# Altium footprint library Inductor_SMD.PcbLib: 259 footprints (part 8 of 17)
Each footprint in its own frame and in the unit in brackets; x right, y up, seen from the top. Pads: shape width x height; smd on the part's side, far side on the other; paste and mask are expansions set on the pad; w line width, h text height; cw(c..) or ccw(c..) is an arc to the next point about the centre after c.
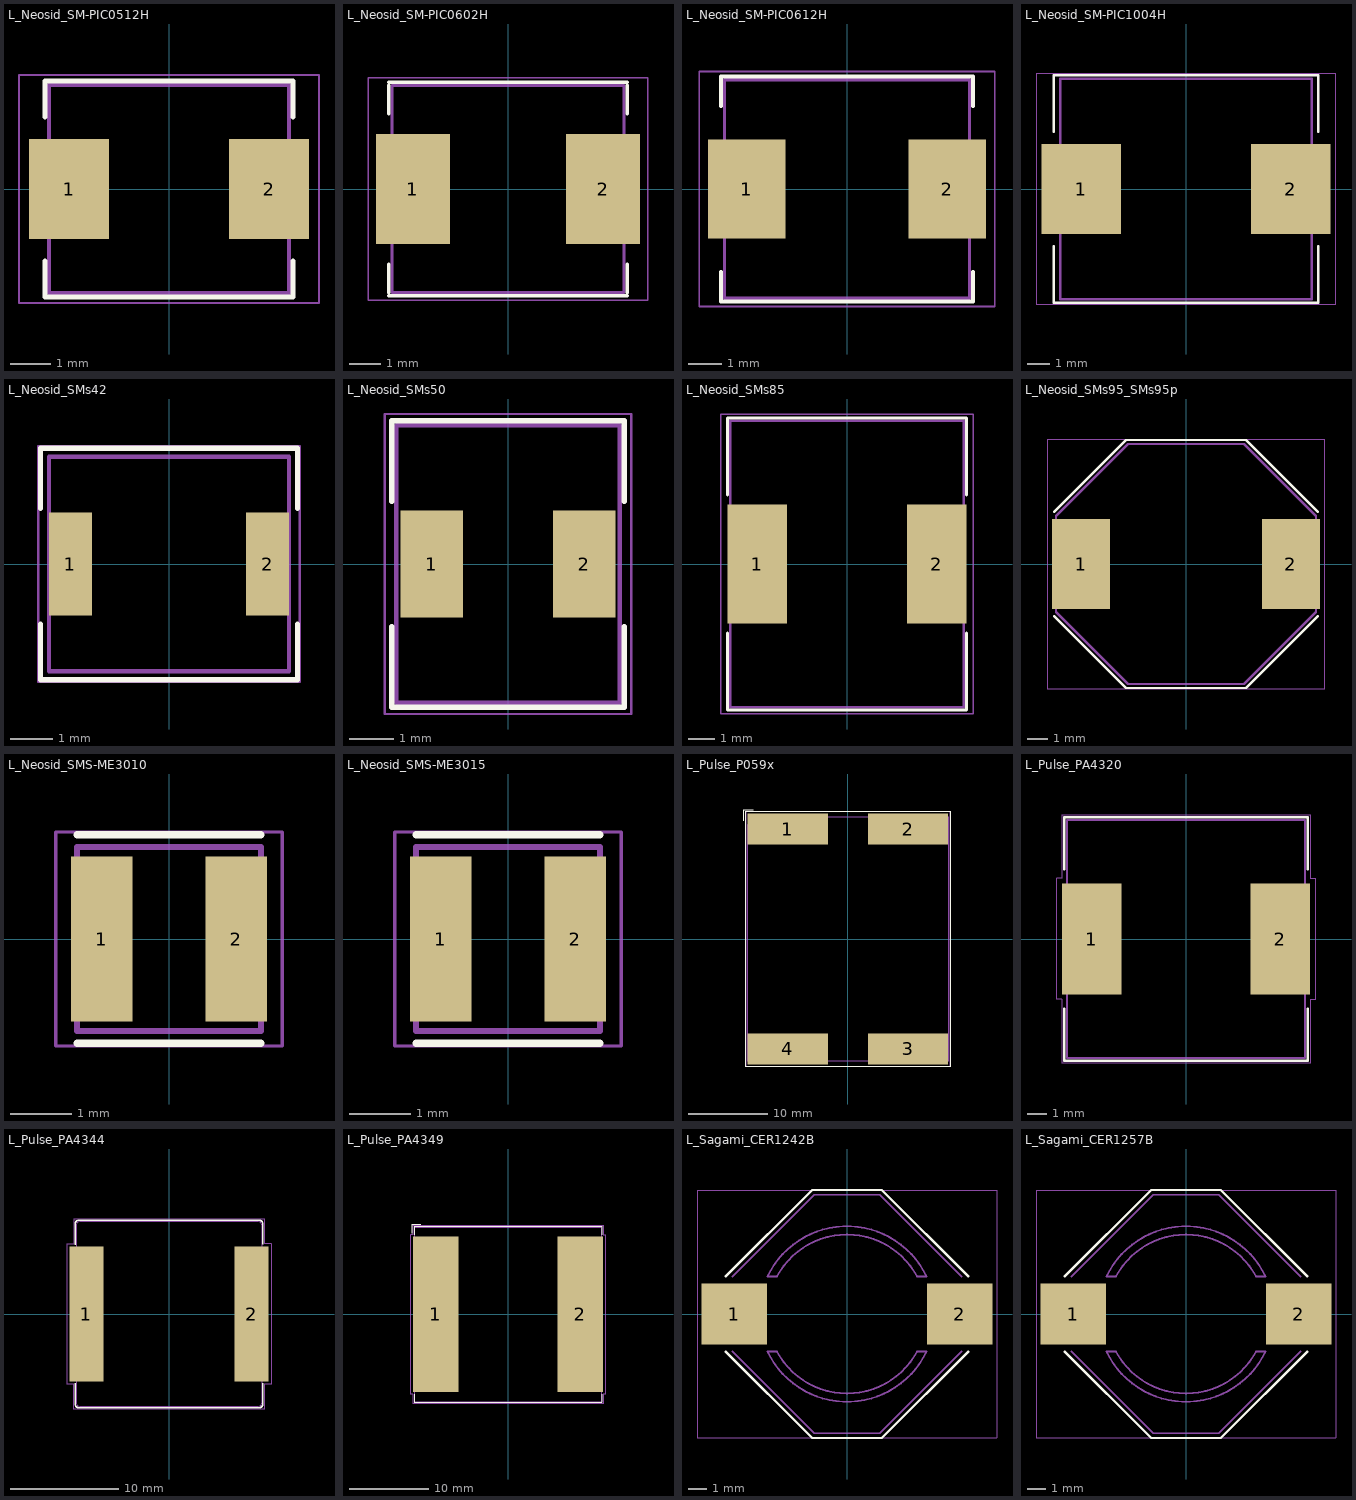
[diagram p7: the footprints below, top view; thin cyan lines are the x and y axes]

## L_Neosid_SM-PIC0512H [mm]
pads (2):
  rect 2x2.5 smd: 1(-2.5,0) 2(2.5,0)
F.SilkS:
  lines w0.12: -3.1,-1.8 -3.1,-2.7 3.1,-2.7 3.1,-1.8 ; -3.1,1.8 -3.1,2.7 3.1,2.7 3.1,1.8
F.CrtYd:
  lines w0.05: -3.75,-2.85 3.75,-2.85 3.75,2.85 -3.75,2.85 -3.75,-2.85
F.Fab:
  lines w0.1: -3,-2.6 3,-2.6 3,2.6 -3,2.6 -3,-2.6
  text "'.Designator'" at -4.047,-0.84 h1

## L_Neosid_SM-PIC0602H [mm]
pads (2):
  rect 2.35x3.5 smd: 1(-3.03,0) 2(3.03,0)
F.SilkS:
  lines w0.12: -3.8,-3.4 3.8,-3.4 ; -3.8,-3.3 -3.8,-2.4 ; -3.8,2.4 -3.8,3.3 ; -3.8,3.4 3.8,3.4 ; 3.8,-3.3 3.8,-2.4 ; 3.8,2.4 3.8,3.3
F.CrtYd:
  lines w0.05: -4.46,-3.55 -4.46,3.55 4.46,3.55 4.46,-3.55 -4.46,-3.55
F.Fab:
  lines w0.1: -3.7,-3.3 -3.7,3.3 3.7,3.3 3.7,-3.3 -3.7,-3.3
  text "'.Designator'" at -4.047,-0.84 h1

## L_Neosid_SM-PIC0612H [mm]
pads (2):
  rect 2.35x3 smd: 1(-3.03,0) 2(3.03,0)
F.SilkS:
  lines w0.12: -3.8,-2.5 -3.8,-3.4 3.8,-3.4 3.8,-2.5 ; -3.8,2.5 -3.8,3.4 3.8,3.4 3.8,2.5
F.CrtYd:
  lines w0.05: -4.46,-3.55 -4.46,3.55 4.46,3.55 4.46,-3.55 -4.46,-3.55
F.Fab:
  lines w0.1: -3.7,-3.3 3.7,-3.3 3.7,3.3 -3.7,3.3 -3.7,-3.3
  text "'.Designator'" at -4.047,-0.84 h1

## L_Neosid_SM-PIC1004H [mm]
pads (2):
  rect 3.6x4.1 smd: 1(-4.75,0) 2(4.75,0)
F.SilkS:
  lines w0.12: -6,-2.6 -6,-5.15 6,-5.15 6,-2.6 ; -6,2.6 -6,5.15 6,5.15 6,2.6
F.CrtYd:
  lines w0.05: -6.8,-5.25 6.8,-5.25 6.8,5.25 -6.8,5.25 -6.8,-5.25
F.Fab:
  lines w0.1: -5.7,-5 5.7,-5 5.7,5 -5.7,5 -5.7,-5
  text "'.Designator'" at -4.047,-0.84 h1

## L_Neosid_SMs42 [mm]
pads (2):
  rect 1x2.4 smd: 1(-2.3,0) 2(2.3,0)
F.SilkS:
  lines w0.12: -3,-1.4 -3,-2.7 3,-2.7 3,-1.4 ; -3,1.3 -3,2.7 3,2.7 3,1.3
F.CrtYd:
  lines w0.05: -3.05,-2.75 3.05,-2.75 3.05,2.75 -3.05,2.75 -3.05,-2.75
F.Fab:
  lines w0.1: -2.8,-2.5 2.8,-2.5 2.8,2.5 -2.8,2.5 -2.8,-2.5
  text "'.Designator'" at -4.047,-0.84 h1

## L_Neosid_SMs50 [mm]
pads (2):
  rect 1.4x2.4 smd: 1(-1.7,0) 2(1.7,0)
F.SilkS:
  lines w0.12: -2.6,-1.4 -2.6,-3.2 2.6,-3.2 2.6,-1.4 ; -2.6,1.4 -2.6,3.2 2.6,3.2 2.6,1.4
F.CrtYd:
  lines w0.05: -2.75,-3.35 -2.75,3.35 2.75,3.35 2.75,-3.35 -2.75,-3.35
F.Fab:
  lines w0.1: -2.5,-3.1 2.5,-3.1 2.5,3.1 -2.5,3.1 -2.5,-3.1
  text "'.Designator'" at -4.047,-0.84 h1

## L_Neosid_SMs85 [mm]
pads (2):
  rect 2.25x4.5 smd: 1(-3.38,0) 2(3.38,0)
F.SilkS:
  lines w0.12: -4.5,-2.6 -4.5,-5.5 4.5,-5.5 4.5,-2.6 ; -4.5,2.6 -4.5,5.5 4.5,5.5 4.5,2.6
F.CrtYd:
  lines w0.05: -4.75,-5.65 -4.75,5.65 4.75,5.65 4.75,-5.65 -4.75,-5.65
F.Fab:
  lines w0.1: -4.4,-5.4 4.4,-5.4 4.4,5.4 -4.4,5.4 -4.4,-5.4
  text "'.Designator'" at -4.047,-0.84 h1

## L_Neosid_SMs95_SMs95p [mm]
pads (2):
  rect 2.9x4.5 smd: 1(-5.25,0) 2(5.25,0)
F.SilkS:
  lines w0.12: -6.6,-2.6 -3,-6.2 3,-6.2 6.6,-2.6 ; -6.6,2.6 -3,6.2 3,6.2 6.6,2.6
F.CrtYd:
  lines w0.05: -6.95,-6.25 -6.95,6.25 6.95,6.25 6.95,-6.25 -6.95,-6.25
F.Fab:
  lines w0.1: -6.5,-2.4 -2.9,-6 2.9,-6 6.5,-2.4 6.5,2.4 2.9,6 -2.9,6 -6.5,2.4 -6.5,-2.4
  text "'.Designator'" at -4.047,-0.84 h1

## L_Neosid_SMS-ME3010 [mm]
pads (2):
  rect 1x2.7 smd: 1(-1.1,0) 2(1.1,0)
F.SilkS:
  lines w0.12: -1.5,-1.7 1.5,-1.7 ; -1.5,1.7 1.5,1.7
F.CrtYd:
  lines w0.05: -1.85,-1.75 -1.85,1.75 1.85,1.75 1.85,-1.75 -1.85,-1.75
F.Fab:
  lines w0.1: -1.5,-1.5 -1.5,1.5 1.5,1.5 1.5,-1.5 -1.5,-1.5
  text "'.Designator'" at -2.833,-0.588 h0.7

## L_Neosid_SMS-ME3015 [mm]
pads (2):
  rect 1x2.7 smd: 1(-1.1,0) 2(1.1,0)
F.SilkS:
  lines w0.12: -1.5,-1.7 1.5,-1.7 ; -1.5,1.7 1.5,1.7
F.CrtYd:
  lines w0.05: -1.85,-1.75 1.85,-1.75 1.85,1.75 -1.85,1.75 -1.85,-1.75
F.Fab:
  lines w0.1: -1.5,-1.5 1.5,-1.5 1.5,1.5 -1.5,1.5 -1.5,-1.5
  text "'.Designator'" at -2.833,-0.588 h0.7

## L_Pulse_P059x [mm]
pads (4):
  rect 10.16x3.94 smd: 1(-7.62,13.93) 2(7.62,13.93) 3(7.62,-13.93) 4(-7.62,-13.93)
F.SilkS:
  lines w0.12: -13.2,15 -13.2,16.4 -12,16.4 ; -12.96,-16.16 -12.96,16.16 12.96,16.16 12.96,-16.16 -12.96,-16.16
F.CrtYd:
  lines w0.05: -12.95,-16.15 -12.95,16.15 12.95,16.15 12.95,-16.15 -12.95,-16.15
F.Fab:
  lines w0.1: -12.7,-15.495 -12.7,14.5 -11.7,15.5 12.7,15.495 12.7,-15.495 -12.7,-15.495
  text "'.Designator'" at -4.047,-0.84 h1

## L_Pulse_PA4320 [mm]
pads (2):
  rect 3x5.6 smd: 1(-4.75,0) 2(4.75,0)
F.SilkS:
  lines w0.12: -6.12,-3.5 -6.12,-6.12 6.12,-6.12 6.12,-3.5 ; -6.12,3.5 -6.12,6.12 6.12,6.12 6.12,3.5
F.CrtYd:
  lines w0.05: -6.5,-3.04 -6.25,-3.04 -6.25,-6.25 6.25,-6.25 6.25,-3.05 6.5,-3.05 6.5,3.05 6.25,3.05 6.25,6.25 -6.25,6.25 -6.25,3.05 -6.5,3.05 -6.5,-3.04
F.Fab:
  lines w0.1: -6,-6 6,-6 6,6 -6,6 -6,-6
  text "'.Designator'" at -4.047,-0.84 h1

## L_Pulse_PA4344 [mm]
pads (2):
  rect 3.15x12.5 smd: 1(-7.675,0) 2(7.675,0)
F.SilkS:
  lines w0.12: -8.721,8.35 cw(c-8.35,8.35) -8.37,8.72 ; -8.72,-8.36 ccw(c-8.35,-8.35) -8.35,-8.72 8.35,-8.72 ccw(c8.35,-8.35) 8.72,-8.35 8.72,-6.45 ; -8.72,-8.34 -8.72,-6.44 ; -8.72,6.45 -8.72,8.35 ; -8.35,8.72 8.35,8.72 cw(c8.35,8.35) 8.72,8.36 8.72,6.46
F.CrtYd:
  lines w0.05: -9.5,-6.5 -9.5,6.5 -8.85,6.5 -8.85,8.85 8.85,8.85 8.85,6.5 9.5,6.5 9.5,-6.5 8.85,-6.5 8.85,-8.85 -8.85,-8.85 -8.85,-6.5 -9.5,-6.5
F.Fab:
  lines w0.1: -8.6,-8.3 -8.6,8.3 cw(c-8.3,8.3) -8.3,8.6 8.3,8.6 cw(c8.3,8.3) 8.6,8.3 8.6,-8.3 cw(c8.3,-8.3) 8.3,-8.6 -8.3,-8.6 cw(c-8.3,-8.3) -8.6,-8.3
  text "'.Designator'" at -4.047,-0.84 h1

## L_Pulse_PA4349 [mm]
pads (2):
  rect 5.75x19.6 smd: 1(-9.125,0) 2(9.125,0)
F.SilkS:
  lines w0.12: -12.1,10.25 -12.1,11.35 -11,11.35 ; -11.85,-10.06 -11.85,-11.1 11.85,-11.1 11.85,-10.06 ; -11.85,10.06 -11.85,11.1 11.85,11.1 11.85,10.06
F.CrtYd:
  lines w0.05: -12.25,-10.05 -12.25,10.05 -12,10.05 -12,11.25 12,11.25 12,10.05 12.25,10.05 12.25,-10.05 12,-10.05 12,-11.25 -12,-11.25 -12,-10.05 -12.25,-10.05
F.Fab:
  lines w0.1: -11.75,-11 -11.75,11 11.75,11 11.75,-11 -11.75,-11
  text "'.Designator'" at -4.047,-0.84 h1

## L_Sagami_CER1242B [mm]
pads (2):
  rect 3.55x3.3 smd: 1(-6.125,0) 2(6.125,0)
F.SilkS:
  lines w0.12: -6.604,-2.032 -1.905,-6.731 1.905,-6.731 6.604,-2.032 ; -6.604,2.032 -1.905,6.731 1.905,6.731 6.604,2.032
F.CrtYd:
  lines w0.05: -8.15,-6.73 -8.15,6.73 8.15,6.73 8.15,-6.73 -8.15,-6.73
F.Fab:
  lines w0.1: -6.223,-2.032 -1.778,-6.477 1.778,-6.477 6.223,-2.032 ; -6.223,2.032 -1.778,6.477 1.778,6.477 6.223,2.032 ; -2.032,-4.318 ccw(c0,0) 4.318,-2.032 3.81,-2.032 cw(c0,0) -2.032,-3.81 ; -2.032,3.81 cw(c0,0) 3.81,2.032 4.318,2.032 ccw(c0,0) -2.032,4.318 ; 2.032,-4.318 cw(c0,0) -4.318,-2.032 -3.81,-2.032 ccw(c0,0) 2.032,-3.81 ; 2.032,3.81 ccw(c0,0) -3.81,2.032 -4.318,2.032 cw(c0,0) 2.032,4.318
  text "'.Designator'" at -4.047,-0.84 h1

## L_Sagami_CER1257B [mm]
pads (2):
  rect 3.55x3.3 smd: 1(-6.125,0) 2(6.125,0)
F.SilkS:
  lines w0.12: -6.604,-2.032 -1.905,-6.731 1.905,-6.731 6.604,-2.032 ; -6.604,2.032 -1.905,6.731 1.905,6.731 6.604,2.032
F.CrtYd:
  lines w0.05: -8.15,-6.73 -8.15,6.73 8.15,6.73 8.15,-6.73 -8.15,-6.73
F.Fab:
  lines w0.1: -6.223,-2.032 -1.778,-6.477 1.778,-6.477 6.223,-2.032 ; -6.223,2.032 -1.778,6.477 1.778,6.477 6.223,2.032 ; -2.032,-4.318 ccw(c0,0) 4.318,-2.032 3.81,-2.032 cw(c0,0) -2.032,-3.81 ; -2.032,3.81 cw(c0,0) 3.81,2.032 4.318,2.032 ccw(c0,0) -2.032,4.318 ; 2.032,-4.318 cw(c0,0) -4.318,-2.032 -3.81,-2.032 ccw(c0,0) 2.032,-3.81 ; 2.032,3.81 ccw(c0,0) -3.81,2.032 -4.318,2.032 cw(c0,0) 2.032,4.318
  text "'.Designator'" at -4.047,-0.84 h1